# EAGLE library part SD_CARD (library Custom_Library)
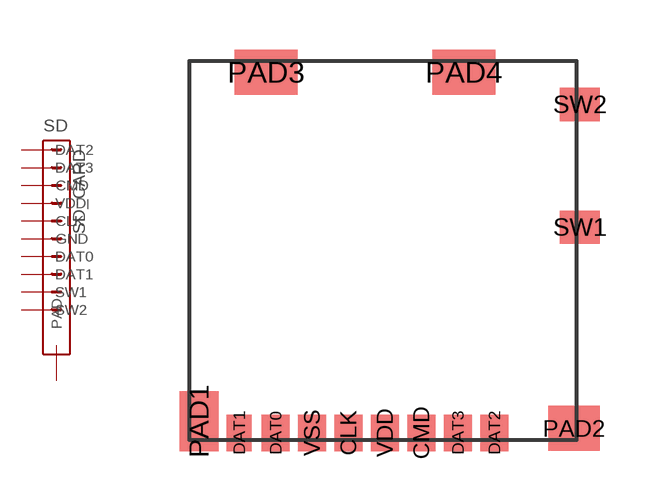
[diagram p22: symbol with the pads of SD_CARD; footprint SD_CARD]

Designator prefix SD

## SD_CARD  [SD_CARD]
CLK  CLK  pas
CMD  CMD  pas
DAT0  DAT0  pas
DAT1  DAT1  pas
DAT2  DAT2  pas
DAT3  DAT3  pas
PAD1  PAD
PAD2  PAD
PAD3  PAD
PAD4  PAD
SW1  SW1  pas
SW2  SW2  pas
VDD  VDD  pas
VSS  GND  pas

## Footprint SD_CARD (pad centres in mm)
smd 0.85 x 1.1: CLK -1.245,-10.2; CMD 0.955,-10.2; DAT0 -3.445,-10.2; DAT2 3.155,-10.2; DAT3 2.055,-10.2; VDD -0.145,-10.2; VSS -2.345,-10.2
smd 0.75 x 1.1: DAT1 -4.545,-10.2
smd 1.17 x 1.8: PAD1 -5.755,-9.85
smd 1.55 x 1.35: PAD2 5.565,-10.065
smd 1.9 x 1.35: PAD3 -3.73,0.675; PAD4 2.24,0.675
smd 1.2 x 1: SW1 5.74,-4; SW2 5.74,-0.3